# Altium footprint library 5730_LED.PcbLib: 1 footprints
Each footprint in its own frame and in the unit in brackets; x right, y up, seen from the top. Pads: shape width x height; smd on the part's side, far side on the other; paste and mask are expansions set on the pad; w line width, h text height; cw(c..) or ccw(c..) is an arc to the next point about the centre after c.
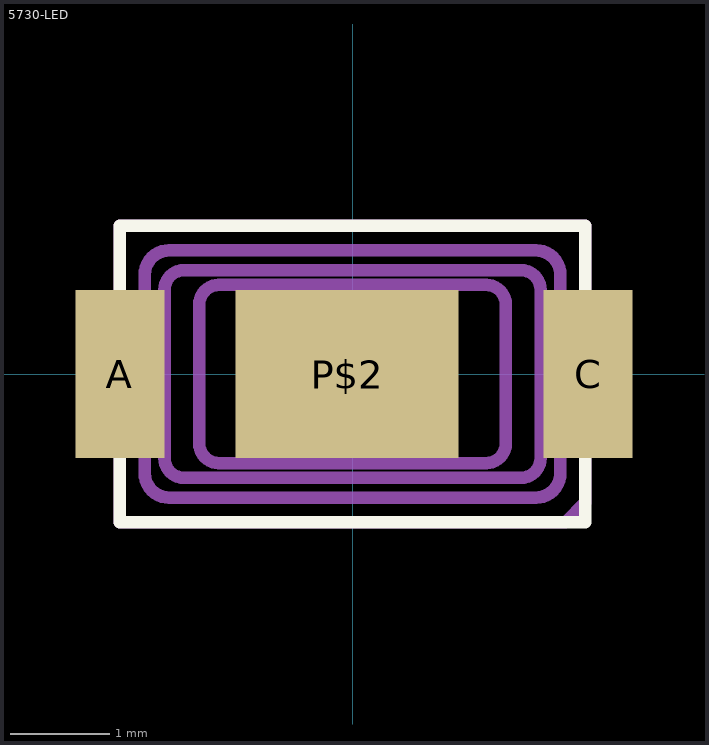
[diagram p0: the footprint, top view; thin cyan lines are the x and y axes]

## 5730-LED [mm]
pads (3):
  rect 0.9x1.7 smd paste+0 mask+0.051: A(-2.35,0) C(2.38,0)
  rect 2.25x1.7 smd paste+0 mask+0.051: P$2(-0.055,0)
Top Overlay:
  lines w0.127: -2.35,-1.5 -2.35,1.5 2.35,1.5 2.35,-1.5 -2.35,-1.5
Mechanical 15:
  lines w0.127: 0.65,-0.9 0.65,0.9 ; 0.65,-0.9 0.9,-0.9 ; 0.65,-0.9 -1.35,-0.9 cw(c-1.35,-0.7) -1.55,-0.7 -1.55,0.7 cw(c-1.35,0.7) -1.35,0.9 0.65,0.9 ; 0.65,0.9 0.9,0.9 ; 0.9,-0.9 0.9,0.9 ; 0.9,-0.9 1.35,-0.9 ccw(c1.35,-0.7) 1.55,-0.7 1.55,0.7 ccw(c1.35,0.7) 1.35,0.9 0.9,0.9 ; -2.35,-1.5 2.15,-1.5 2.35,-1.3 2.35,1.5 -2.35,1.5 -2.35,-1.5 ; -2.1,-1 ccw(c-1.85,-1) -1.85,-1.25 1.85,-1.25 ccw(c1.85,-1) 2.1,-1 2.1,1 ccw(c1.85,1) 1.85,1.25 -1.85,1.25 ccw(c-1.85,1) -2.1,1 -2.1,-1 ; -1.9,-0.85 ccw(c-1.7,-0.85) -1.7,-1.05 1.7,-1.05 ccw(c1.7,-0.85) 1.9,-0.85 1.9,0.85 ccw(c1.7,0.85) 1.7,1.05 -1.7,1.05 ccw(c-1.7,0.85) -1.9,0.85 -1.9,-0.85